# EAGLE library part LTC3550 (library Lysenko_Eagle_Lib)
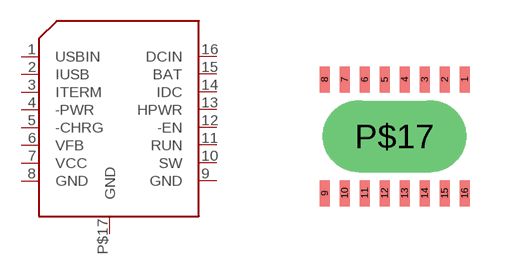
[diagram p31: symbol with the pads of DFN-16; footprint DFN-16]

Designator prefix -

## LTC3550  [DFN-16]
1  USBIN
2  IUSB
3  ITERM
4  -PWR
5  -CHRG
6  VFB
7  VCC
8  GND
9  GND
10  SW
11  RUN
12  -EN
13  HPWR
14  IDC
15  BAT
16  DCIN
P$17  GND

## Footprint DFN-16 (pad centres in mm)
smd 0.25 x 0.65: 1 3.5,2.85; 2 3,2.85; 3 2.5,2.85; 4 2,2.85; 5 1.5,2.85; 6 1,2.85; 7 0.5,2.85; 8 0,2.85; 9 0,0; 10 0.5,0; 11 1,0; 12 1.5,0; 13 2,0; 14 2.5,0; 15 3,0; 16 3.5,0
drill 1.2 pad 1.27 long: P$17 1.75,1.425